# Altium footprint library RES-ADJ-50K(10%).PcbLib: 1 footprints
Each footprint in its own frame and in the unit in brackets; x right, y up, seen from the top. Pads: shape width x height; smd on the part's side, far side on the other; paste and mask are expansions set on the pad; w line width, h text height; cw(c..) or ccw(c..) is an arc to the next point about the centre after c.
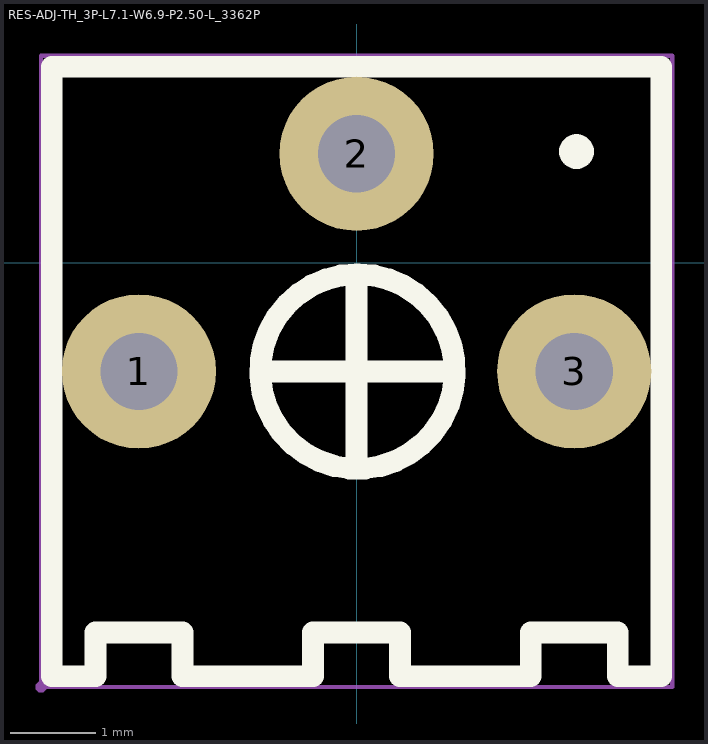
[diagram p0: the footprint, top view; thin cyan lines are the x and y axes]

## RES-ADJ-TH_3P-L7.1-W6.9-P2.50-L_3362P [mm]
pads (3):
  round 1.8 hole 0.9: 1(-2.54,-1.27) 2(0,1.27) 3(2.54,-1.27)
Top Overlay:
  lines w0.254: -1.016,-1.27 1.016,-1.27 ; 0,-2.286 0,-0.254 ; 0,-0.135 ccw(c0.01,-1.27) 0.02,-0.135 ; 2.565,1.372 ccw(c2.567,1.295) 2.568,1.372 ; 3.556,-0.762 3.556,2.286 -3.556,2.286 -3.556,-0.762 -3.556,-4.318 -3.556,-4.826 -3.048,-4.826 -3.048,-4.318 -2.032,-4.318 -2.032,-4.826 -0.508,-4.826 -0.508,-4.318 0.508,-4.318 0.508,-4.826 2.032,-4.826 2.032,-4.318 3.048,-4.318 3.048,-4.826 3.556,-4.826 3.556,-4.318 3.556,-0.254
Mechanical 15:
  region: -2.19,-1.27 -2.19,-1.2 -2.243,-1.072 -2.342,-0.973 -2.47,-0.92 -2.61,-0.92 -2.738,-0.973 -2.837,-1.072 -2.89,-1.2 -2.89,-1.27 -2.89,-1.34 -2.837,-1.468 -2.738,-1.567 -2.61,-1.62 -2.47,-1.62 -2.342,-1.567 -2.243,-1.468 -2.19,-1.34 -2.19,-1.27
  region: 0.35,1.27 0.35,1.34 0.297,1.468 0.198,1.567 0.07,1.62 -0.07,1.62 -0.198,1.567 -0.297,1.468 -0.35,1.34 -0.35,1.27 -0.35,1.2 -0.297,1.072 -0.198,0.973 -0.07,0.92 0.07,0.92 0.198,0.973 0.297,1.072 0.35,1.2 0.35,1.27
  region: 2.89,-1.27 2.89,-1.2 2.837,-1.072 2.738,-0.973 2.61,-0.92 2.47,-0.92 2.342,-0.973 2.243,-1.072 2.19,-1.2 2.19,-1.27 2.19,-1.34 2.243,-1.468 2.342,-1.567 2.47,-1.62 2.61,-1.62 2.738,-1.567 2.837,-1.468 2.89,-1.34 2.89,-1.27
  region: -3.623,-4.953 -3.623,-4.928 -3.658,-4.893 -3.708,-4.893 -3.743,-4.928 -3.743,-4.953 -3.743,-4.978 -3.708,-5.013 -3.658,-5.013 -3.623,-4.978 -3.623,-4.953
  lines w0.051: -3.683,-4.953 3.683,-4.953 3.683,2.413 -3.683,2.413 -3.683,-4.953
3D body "3D_PCB1_2023-06-25.step": height 4.78, standoff -3.5, extent -3.387,-4.795 3.513,2.306